# Altium footprint library LP0003A.PcbLib: 1 footprints
Each footprint in its own frame and in the unit in brackets; x right, y up, seen from the top. Pads: shape width x height; smd on the part's side, far side on the other; paste and mask are expansions set on the pad; w line width, h text height; cw(c..) or ccw(c..) is an arc to the next point about the centre after c.
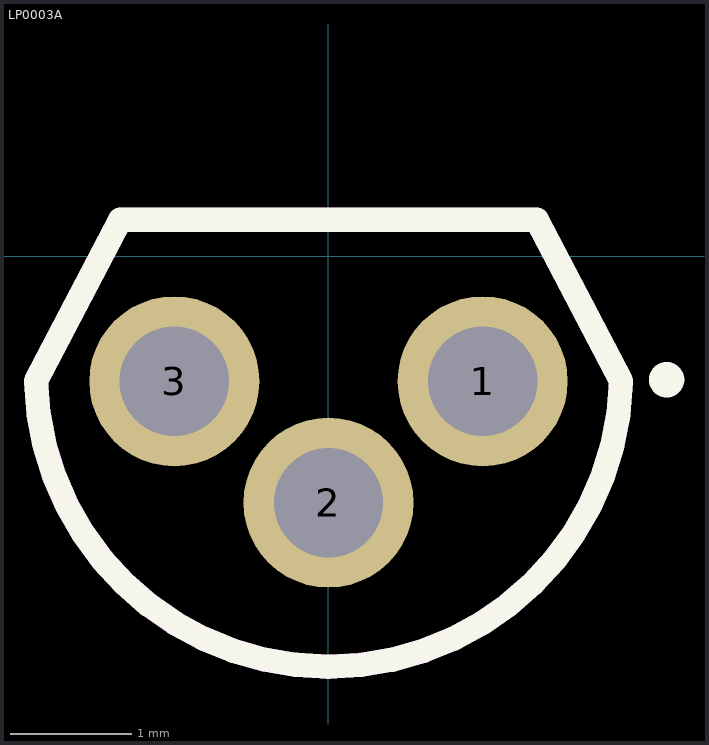
[diagram p0: the footprint, top view; thin cyan lines are the x and y axes]

## LP0003A [mm]
pads (3):
  round 1.4 hole 0.9: 1(1.27,-1.032) 2(0,-2.032) 3(-1.27,-1.032)
L26-Silk Screen Top (Multiple PADS layers...):
  circle w0.2: c2.785,-1.019 r0.046
  lines w0.2: -2.41,-1.032 -1.715,0.298 1.715,0.298 2.41,-1.032 ; -2.41,-1.031 ccw(c0,-0.972) 2.41,-1.035
L15 (Multiple PADS layers...):
  lines w0.2: -2.41,-1.035 ccw(c0,-0.972) 2.41,-1.031 ; -2.41,-1.032 -1.715,0.298 1.715,0.298 2.41,-1.032